# EAGLE library part 74HC595 (library Public)
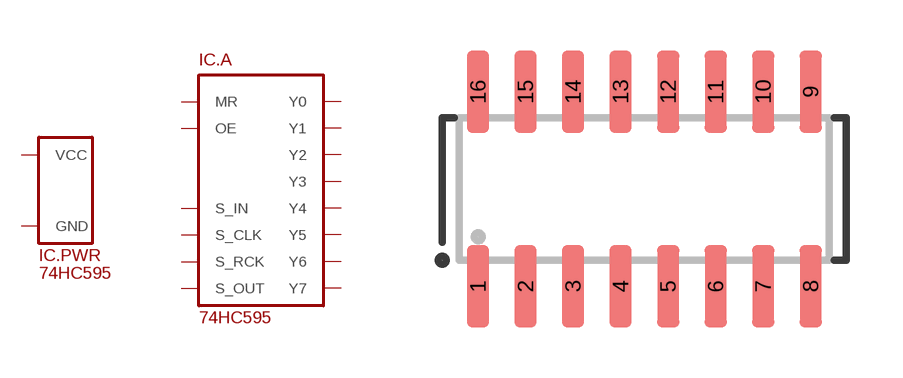
[diagram p0: symbol with the pads of SO16; footprint SO16]

Designator prefix IC; gates .PWR=SUPPLY_VCC/GND .A=74HC595

## 74HC595(SO16)  [SO16]
1  .A:Y1
2  .A:Y2
3  .A:Y3
4  .A:Y4
5  .A:Y5
6  .A:Y6
7  .A:Y7
8  .PWR:GND
9  .A:S_OUT
10  .A:MR
11  .A:S_CLK
12  .A:S_RCK
13  .A:OE
14  .A:S_IN
15  .A:Y0
16  .PWR:VCC

## Footprint SO16 (pad centres in mm)
smd 0.6 x 2.2: 1 -4.445,-2.6; 2 -3.175,-2.6; 3 -1.905,-2.6; 4 -0.635,-2.6; 5 0.635,-2.6; 6 1.905,-2.6; 7 3.175,-2.6; 8 4.445,-2.6; 9 4.445,2.6; 10 3.175,2.6; 11 1.905,2.6; 12 0.635,2.6; 13 -0.635,2.6; 14 -1.905,2.6; 15 -3.175,2.6; 16 -4.445,2.6